# Altium footprint library PQFN19P40_230X190X40L25X20T140X100RN.PcbLib: 1 footprints
Each footprint in its own frame and in the unit in brackets; x right, y up, seen from the top. Pads: shape width x height; smd on the part's side, far side on the other; paste and mask are expansions set on the pad; w line width, h text height; cw(c..) or ccw(c..) is an arc to the next point about the centre after c.
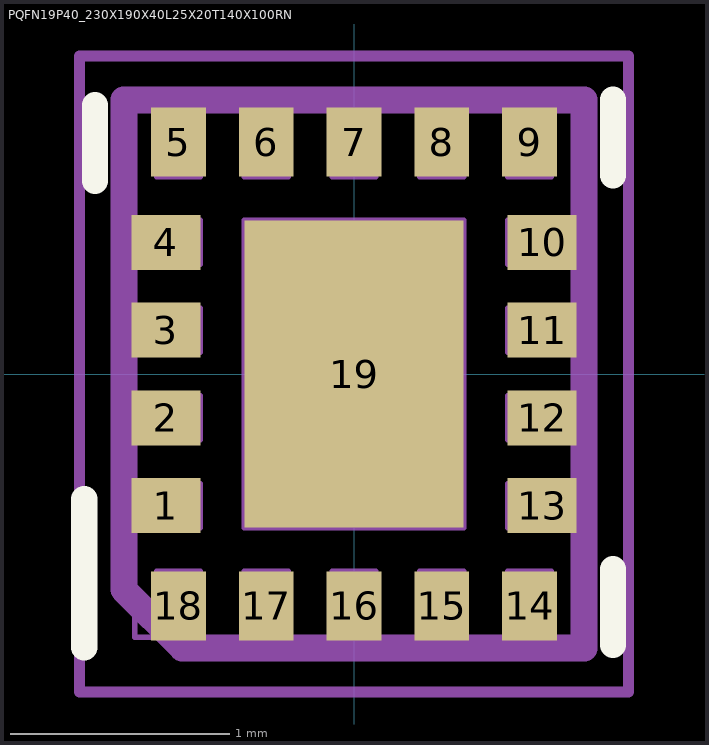
[diagram p0: the footprint, top view; thin cyan lines are the x and y axes]

## PQFN19P40_230X190X40L25X20T140X100RN [mm] "Pullback Quad Flat No-Lead (PQFN) with Thermal Tab, 0.40 mm pitch;  rect., 4 pin X 5 pin, 2.40 mm L X 2.00 mm W X 0.40 mm H Body"
height 0.4
pads (19):
  rect 0.315x0.25 smd: 1(-0.857,-0.6) 2(-0.857,-0.2) 3(-0.857,0.2) 4(-0.857,0.6) 10(0.857,0.6) 11(0.857,0.2) 12(0.857,-0.2) 13(0.857,-0.6)
  rect 0.25x0.315 smd: 5(-0.8,1.057) 6(-0.4,1.057) 7(0,1.057) 8(0.4,1.057) 9(0.8,1.057) 14(0.8,-1.057) 15(0.4,-1.057) 16(0,-1.057) 17(-0.4,-1.057) 18(-0.8,-1.057)
  rect 1x1.4 smd paste-1.4: 19(0,0)
Top Overlay:
  lines w0.12: -1.23,-1.245 -1.23,-0.57 ; -1.18,0.88 -1.18,1.225 ; 1.18,-1.235 1.18,-0.89 ; 1.18,0.905 1.18,1.25
Top Paste:
  region: -0.353,-0.627 -0.353,-0.073 0.353,-0.073 0.353,-0.627
  region: -0.353,0.073 -0.353,0.627 0.353,0.627 0.353,0.073
Mechanical 3:
  lines w0.12: -1.05,-0.982 -0.782,-1.25 1.05,-1.25 1.05,1.25 -1.05,1.25 -1.05,-0.982
Mechanical 5:
  lines w0.025: -1,-1.2 -1,1.2 1,1.2 1,-1.2 -1,-1.2 ; -0.95,-0.7 -0.7,-0.7 -0.7,-0.5 -0.95,-0.5 -0.95,-0.7 ; -0.95,-0.3 -0.7,-0.3 -0.7,-0.1 -0.95,-0.1 -0.95,-0.3 ; -0.95,0.1 -0.7,0.1 -0.7,0.3 -0.95,0.3 -0.95,0.1 ; -0.95,0.5 -0.7,0.5 -0.7,0.7 -0.95,0.7 -0.95,0.5 ; -0.9,-1.15 -0.7,-1.15 -0.7,-0.9 -0.9,-0.9 -0.9,-1.15 ; -0.9,0.9 -0.7,0.9 -0.7,1.15 -0.9,1.15 -0.9,0.9 ; -0.5,-1.15 -0.3,-1.15 -0.3,-0.9 -0.5,-0.9 -0.5,-1.15 ; -0.5,-0.7 -0.5,0.7 0.5,0.7 0.5,-0.7 -0.5,-0.7 ; -0.5,0.9 -0.3,0.9 -0.3,1.15 -0.5,1.15 -0.5,0.9 ; -0.1,-1.15 0.1,-1.15 0.1,-0.9 -0.1,-0.9 -0.1,-1.15 ; -0.1,0.9 0.1,0.9 0.1,1.15 -0.1,1.15 -0.1,0.9 ; 0.3,-1.15 0.5,-1.15 0.5,-0.9 0.3,-0.9 0.3,-1.15 ; 0.3,0.9 0.5,0.9 0.5,1.15 0.3,1.15 0.3,0.9 ; 0.7,-1.15 0.9,-1.15 0.9,-0.9 0.7,-0.9 0.7,-1.15 ; 0.7,-0.7 0.7,-0.5 0.95,-0.5 0.95,-0.7 0.7,-0.7 ; 0.7,-0.3 0.7,-0.1 0.95,-0.1 0.95,-0.3 0.7,-0.3 ; 0.7,0.1 0.7,0.3 0.95,0.3 0.95,0.1 0.7,0.1 ; 0.7,0.5 0.7,0.7 0.95,0.7 0.95,0.5 0.7,0.5 ; 0.7,0.9 0.9,0.9 0.9,1.15 0.7,1.15 0.7,0.9
Mechanical 7:
  circle w0.05: c0,0 r0.25
  lines w0.05: -0.35,0 0.35,0 ; 0,-0.35 0,0.35 ; -1.25,-1.45 1.25,-1.45 1.25,1.45 -1.25,1.45 -1.25,-1.45
Mechanical 9:
  text "'.Designator'" at -1.348,-0.159 h1.02
3D body "PQFN19P40_230X190X40L25X20T140X100R.STEP": height 0.4, standoff 0, extent -1,-1.2 1,1.2
3D body: height 0.4, standoff 0, extent -1.25,-1.45 1.25,1.45